# EAGLE library part MR24 (library RELAY)
RELAY 4 x switch
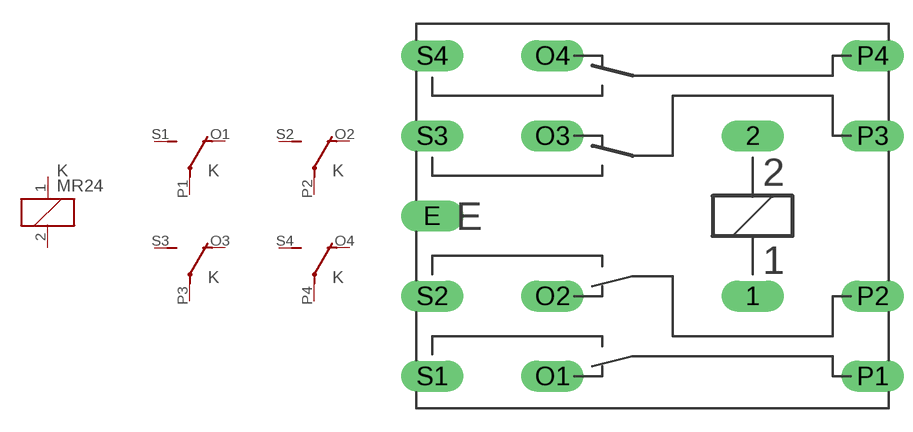
[diagram p28: symbol with the pads of MR24; footprint MR24]

Designator prefix K; gates 1=K 2=U 3=U 4=U 5=U

## MR24  [MR24]
1  1:1  pas
2  1:2  pas
O1  2:O  pas
O2  3:O  pas
O3  4:O  pas
O4  5:O  pas
P1  2:P  pas
P2  3:P  pas
P3  4:P  pas
P4  5:P  pas
S1  2:S  pas
S2  3:S  pas
S3  4:S  pas
S4  5:S  pas

## Footprint MR24 (pad centres in mm)
RELAY 4 x switch
drill 1.321 long: 1 15.24,-5.08; 2 15.24,5.08; E -5.08,0; O1 2.54,-10.16; O2 2.54,-5.08; O3 2.54,5.08; O4 2.54,10.16; P1 22.86,-10.16; P2 22.86,-5.08; P3 22.86,5.08; P4 22.86,10.16; S1 -5.08,-10.16; S2 -5.08,-5.08; S3 -5.08,5.08; S4 -5.08,10.16